# Altium schematic symbol library IC - Other.SchLib: 13 symbols
Pins are listed as number, name and electrical type; pins without a type are passive.

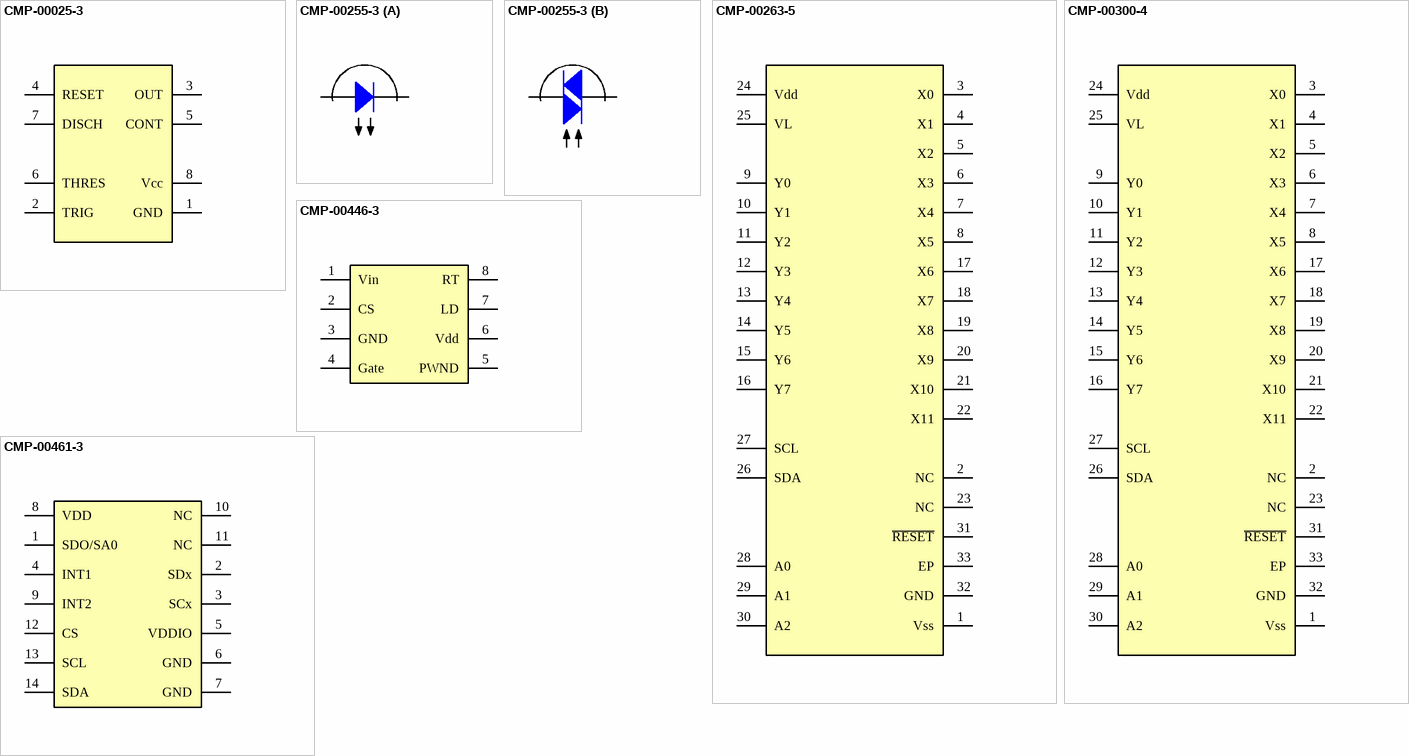
[diagram p0: symbols CMP-00025-3 to CMP-00461-3]

## CMP-00025-3
designator DA?, comment NE555
NE555DR; Component Name: IC, Time, NE555DR, SOIC-8; Package: SOIC-8; Marking: NE555; Value: NE555DR; ComponentLink1Description: Datasheet; ComponentLink1URL: http://www.ti.com/lit/ds/symlink/ne555.pdf; Mounting type: SMD
footprint SO-8
pins: 1 GND, 2 TRIG, 3 OUT, 4 RESET, 5 CONT, 6 THRES, 7 DISCH, 8 Vcc

## CMP-00255-3
designator U?, comment MOC3081
Component Name: IC, Optoisolator Triac Driver, MOC3081, DIP-6; Package: DIP-6; Marking: MOC3081; Value: MOC3081; ComponentLink1Description: Datasheet; ComponentLink1URL: http://www.junradio.com/Discretes/mikr1/moc3081rev1.pdf; Mounting type: PTH
footprint DIP-6
part A pins: 1, 2
part B pins: 4, 6

## CMP-00263-5
designator DA?, comment ADG2128
ADG2128BCP-HS; Component Name: IC, Switch Array with dual/single supplies, ADG2128BCP-HS, QFN-32; Package: QFN-32; Marking: ADG2128; Value: ADG2128BCP-HS; ComponentLink1Description: Datasheet; ComponentLink1URL: http://www.analog.com/media/en/technical-documentation/data-sheets/ADG2128.pdf; Mounting type: SMD
footprint QFN-32 5x5
pins: 1 Vss, 2 NC, 3 X0, 4 X1, 5 X2, 6 X3, 7 X4, 8 X5, 9 Y0, 10 Y1, 11 Y2, 12 Y3, 13 Y4, 14 Y5, 15 Y6, 16 Y7, 17 X6, 18 X7, 19 X8, 20 X9, 21 X10, 22 X11, 23 NC, 24 Vdd, 25 VL, 26 SDA, 27 SCL, 28 A0, 29 A1, 30 A2, 31 ~{RESET}, 32 GND, 33 EP

## CMP-00300-4
designator DA?, comment ADG2128
ADG2128BCPZ-REEL; Component Name: IC, Switch Array with dual/single supplies, ADG2128BCPZ-REEL, QFN-32; Package: QFN-32; Marking: ADG2128; Value: ADG2128BCPZ-REEL; ComponentLink1Description: Datasheet; ComponentLink1URL: http://www.analog.com/media/en/technical-documentation/data-sheets/ADG2128.pdf; Mounting type: SMD
footprint QFN-32 5x5
pins: 1 Vss, 2 NC, 3 X0, 4 X1, 5 X2, 6 X3, 7 X4, 8 X5, 9 Y0, 10 Y1, 11 Y2, 12 Y3, 13 Y4, 14 Y5, 15 Y6, 16 Y7, 17 X6, 18 X7, 19 X8, 20 X9, 21 X10, 22 X11, 23 NC, 24 Vdd, 25 VL, 26 SDA, 27 SCL, 28 A0, 29 A1, 30 A2, 31 ~{RESET}, 32 GND, 33 EP

## CMP-00446-3
designator DA?, comment HV9910
HV9910B; Component Name: IC, LED Driver, HV9910B, SOIC-8; Package: SOIC-8; Marking: HV9910; Value: HV9910B; ComponentLink1Description: Datasheet; ComponentLink1URL: http://lib.chipdip.ru/296/DOC000296168.pdf; Mounting type: SMD
footprint SO-8
pins: 1 Vin, 2 CS, 3 GND, 4 Gate, 5 PWND, 6 Vdd, 7 LD, 8 RT

## CMP-00461-3
designator DD?, comment LSM6DS3
Component Name: iNEMO inertial module, LSM6DS3, LGA-14L; Package: LGA-14L; Marking: LSM6DS3; Value: LSM6DS3; ComponentLink1Description: Datasheet; ComponentLink1URL: http://www.mouser.com/ds/2/389/DM00133076-533839.pdf; Mounting type: SMD
footprint LGA-14L 2.5X3
pins: 1 SDO/SA0, 2 SDx, 3 SCx, 4 INT1, 5 VDDIO, 6 GND, 7 GND, 8 VDD, 9 INT2, 10 NC, 11 NC, 12 CS, 13 SCL, 14 SDA

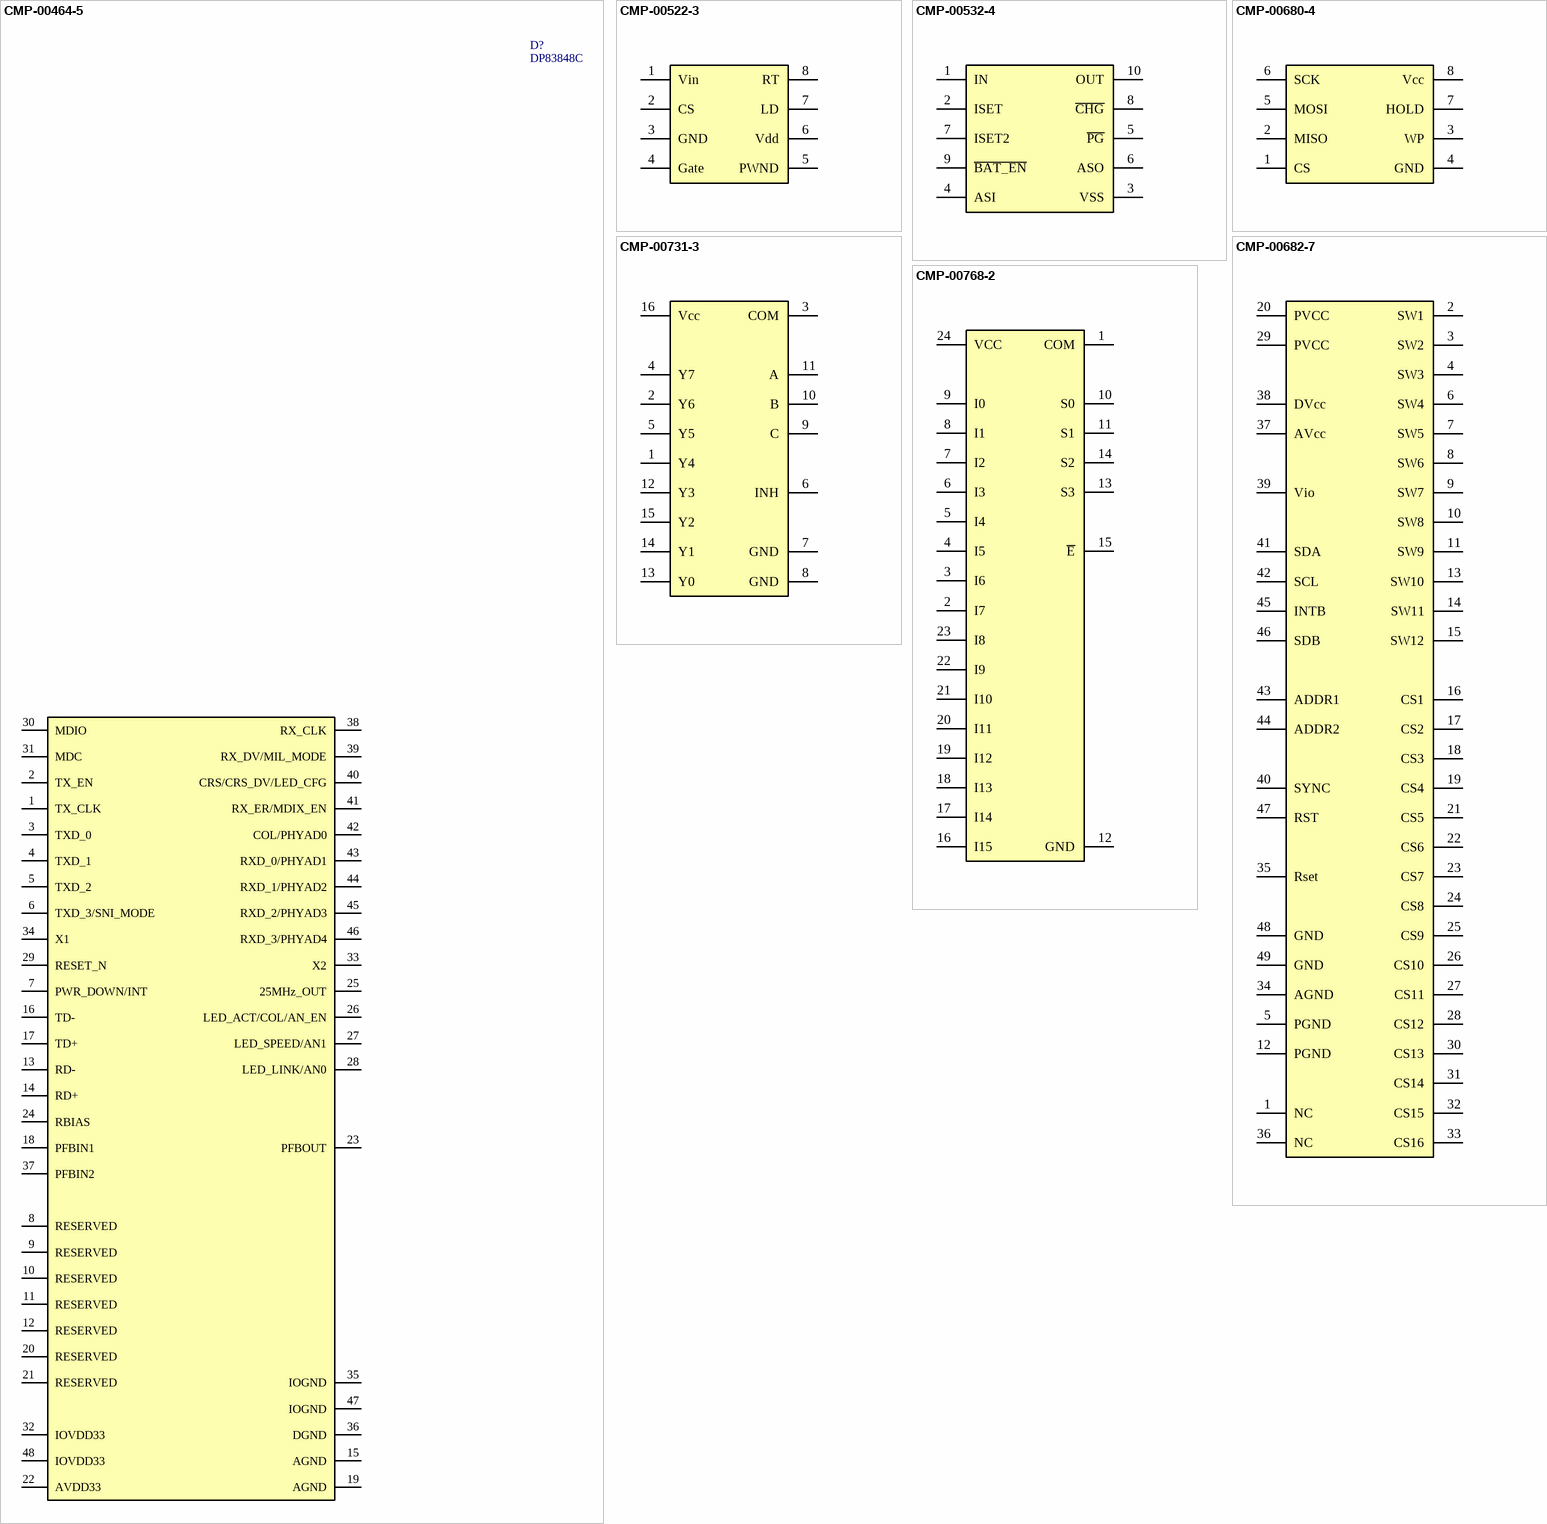
[diagram p1: symbols CMP-00464-5 to CMP-00768-2]

## CMP-00464-5
designator D?, comment DP83848C
Component Name: Ethernet Physical Layer Transceiver, DP83848C, LQFP-48; Package: LQFP-48; Marking: DP83848C; Value: DP83848C; ComponentLink1Description: Datasheet; ComponentLink1URL: http://www.ti.com/lit/ds/symlink/dp83848c.pdf; Mounting type: SMD
footprint LQFP-48
pins: 1 TX_CLK, 2 TX_EN, 3 TXD_0, 4 TXD_1, 5 TXD_2, 6 TXD_3/SNI_MODE, 7 PWR_DOWN/INT, 8 RESERVED, 9 RESERVED, 10 RESERVED, 11 RESERVED, 12 RESERVED, 13 RD-, 14 RD+, 15 AGND, 16 TD-, 17 TD+, 18 PFBIN1, 19 AGND, 20 RESERVED, 21 RESERVED, 22 AVDD33, 23 PFBOUT, 24 RBIAS, 25 25MHz_OUT, 26 LED_ACT/COL/AN_EN, 27 LED_SPEED/AN1, 28 LED_LINK/AN0, 29 RESET_N, 30 MDIO, 31 MDC, 32 IOVDD33, 33 X2, 34 X1, 35 IOGND, 36 DGND, 37 PFBIN2, 38 RX_CLK, 39 RX_DV/MIL_MODE, 40 CRS/CRS_DV/LED_CFG, 41 RX_ER/MDIX_EN, 42 COL/PHYAD0, 43 RXD_0/PHYAD1, 44 RXD_1/PHYAD2, 45 RXD_2/PHYAD3, 46 RXD_3/PHYAD4, 47 IOGND, 48 IOVDD33

## CMP-00522-3
designator DA?, comment HV9961
Component Name: IC, LED Driver, HV9961, SOIC-8; Package: SOIC-8; Marking: HV9961; Value: HV9961; ComponentLink1Description: Datasheet; ComponentLink1URL: http://ww1.microchip.com/downloads/en/DeviceDoc/hv9961.pdf; Mounting type: SMD
footprint SO-8
pins: 1 Vin, 2 CS, 3 GND, 4 Gate, 5 PWND, 6 Vdd, 7 LD, 8 RT

## CMP-00532-4
designator D?, comment BQ24041
Component Name: Single Cell Li-Ion and Li-Pol Battery Charger, BQ24041, WSON-10 2x2mm; Package: WSON-10; Marking: BQ24041; Value: BQ24041; ComponentLink1Description: Datasheet; ComponentLink1URL: http://www.ti.com/lit/ds/symlink/bq24045.pdf; Mounting type: SMD
footprint WSON-10 2x2
pins: 1 IN, 2 ISET, 3 VSS, 4 ASI, 5 ~{PG}, 6 ASO, 7 ISET2, 8 ~{CHG}, 9 ~{BAT_EN}, 10 OUT

## CMP-00680-4
designator D?, comment S25FL216
S25FL216K0PMFI011; Component Name: IC, Flash Memory, S25FL216K0PMFI011, SOIC-8 208mil; Package: SOIC-8 208mil; Marking: S25FL216; Value: S25FL216K0PMFI011; ComponentLink1Description: Datasheet; ComponentLink1URL: http://www.mouser.com/ds/2/100/S25FL216K_00-933908.pdf; Mounting type: SMD
footprint SOIC-8 208mil
pins: 1 CS, 2 MISO, 3 WP, 4 GND, 5 MOSI, 6 SCK, 7 HOLD, 8 Vcc

## CMP-00682-7
designator D?, comment IS31FL3733
IS31FL3733-QFLS4-TR; Component Name: IC, Dots Matrix LED Driver, IS31FL3733-QFLS4-TR, GFN-48; Package: QFN-48; Marking: IS31FL3733; Value: IS31FL3733; ComponentLink1Description: Datasheet; ComponentLink1URL: http://www.mouser.com/ds/2/100/S25FL216K_00-933908.pdf; Mounting type: SMD
footprint QFN-48 6x6
pins: 1 NC, 2 SW1, 3 SW2, 4 SW3, 5 PGND, 6 SW4, 7 SW5, 8 SW6, 9 SW7, 10 SW8, 11 SW9, 12 PGND, 13 SW10, 14 SW11, 15 SW12, 16 CS1, 17 CS2, 18 CS3, 19 CS4, 20 PVCC, 21 CS5, 22 CS6, 23 CS7, 24 CS8, 25 CS9, 26 CS10, 27 CS11, 28 CS12, 29 PVCC, 30 CS13, 31 CS14, 32 CS15, 33 CS16, 34 AGND, 35 Rset, 36 NC, 37 AVcc, 38 DVcc, 39 Vio, 40 SYNC, 41 SDA, 42 SCL, 43 ADDR1, 44 ADDR2, 45 INTB, 46 SDB, 47 RST, 48 GND, 49 GND

## CMP-00731-3
designator D?, comment SN74LV4051A
Component Name: IC, 8-Channel Analog Multiplexers and Demultiplexers, SN74LV4051A, SOIC-16; Package: SOIC-16; Marking: SN74LV4051A; Value: SN74LV4051A; ComponentLink1Description: Datasheet; ComponentLink1URL: http://www.ti.com/lit/ds/symlink/sn74lv4051a.pdf; Mounting type: SMD
footprint SOIC-16
pins: 1 Y4, 2 Y6, 3 COM, 4 Y7, 5 Y5, 6 INH, 7 GND, 8 GND, 9 C, 10 B, 11 A, 12 Y3, 13 Y0, 14 Y1, 15 Y2, 16 Vcc

## CMP-00768-2
designator U?, comment CD74HC4067
Component Name: IC, 16-Channel Analog Multiplexer/Demultiplexer, CD74HC4067, SOIC-24; Package: SOIC-24; Marking: CD74HC4067; Value: CD74HC4067; ComponentLink1Description: Datasheet; ComponentLink1URL: http://www.ti.com/lit/ds/symlink/cd74hc4067.pdf; Mounting type: SMD
footprint SOIC-24
pins: 1 COM, 2 I7, 3 I6, 4 I5, 5 I4, 6 I3, 7 I2, 8 I1, 9 I0, 10 S0, 11 S1, 12 GND, 13 S3, 14 S2, 15 ~{E}, 16 I15, 17 I14, 18 I13, 19 I12, 20 I11, 21 I10, 22 I9, 23 I8, 24 VCC